# Altium footprint library Altium_RJ_LAN.PcbLib: 1 footprints
Each footprint in its own frame and in the unit in brackets; x right, y up, seen from the top. Pads: shape width x height; smd on the part's side, far side on the other; paste and mask are expansions set on the pad; w line width, h text height; cw(c..) or ccw(c..) is an arc to the next point about the centre after c.
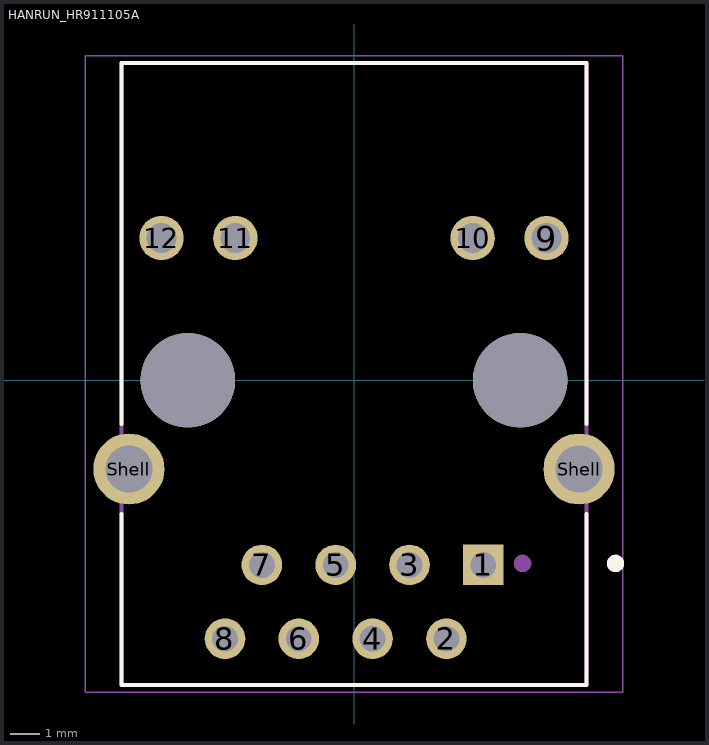
[diagram p0: the footprint, top view; thin cyan lines are the x and y axes]

## HANRUN_HR911105A [mm]
pads (16):
  rect 1.398x1.398 / inner round 1.398 / far side rect 1.398x1.398 hole 0.89: 1(4.45,-6.35)
  round 1.398 hole 0.89: 2(3.18,-8.89) 3(1.91,-6.35) 4(0.64,-8.89) 5(-0.63,-6.35) 6(-1.9,-8.89) 7(-3.17,-6.35) 8(-4.44,-8.89)
  round 1.53 hole 1.02: 9(6.625,4.9) 10(4.085,4.9) 11(-4.085,4.9) 12(-6.625,4.9)
  round 2.445 hole 1.63: Shell(-7.745,-3.05) Shell(7.745,-3.05)
  round 3.25 hole 3.25 unplated: ""(-5.715,0) ""(5.715,0)
Top Overlay:
  circle w0.3: c9,-6.3 r0.15
  lines w0.127: -8,-4.6 -8,-10.48 8,-10.48 8,-4.6 ; -8,-1.5 -8,10.92 8,10.92 8,-1.5
Mechanical 13:
  circle w0.3: c5.8,-6.3 r0.15
  lines w0.127: -8,-10.48 -8,10.92 8,10.92 8,-10.48 -8,-10.48
Mechanical 15:
  lines w0.05: -9.25,-10.73 -9.25,11.17 9.25,11.17 9.25,-10.73 -9.25,-10.73
3D body "step_temp.STEP": height 13.5, standoff -3.05, extent -8.02,-10.378 8.02,10.922